# Altium integrated library Header_7.IntLib: 1 symbol
Pins are listed as number, name and electrical type; pins without a type are passive.

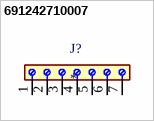
[diagram p0: symbol 691242710007]

## 691242710007
designator J?
7 Position Wire to Board Terminal Block Horizontal with Board 0.197 (5.00mm) Through Hole; MF: WÃ¼rth Elektronik; MP: 691242710007; SnapEDA_Link: https://www.snapeda.com/parts/691242710007/W%25C3%25BCrth+Elektronik+Midcom/view-part/?ref=snap; Package: None; Value: *; Check_prices: https://www.snapeda.com/parts/691242710007/W%25C3%25BCrth+Elektronik+Midcom/view-part/?ref=eda
footprint 691242710007
pins: 1, 2, 3, 4, 5, 6, 7